# Altium schematic symbol library Oscillators.SchLib: 5 symbols
Pins are listed as number, name and electrical type; pins without a type are passive.

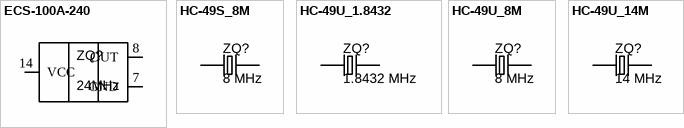
[diagram p0: symbols ECS-100A-240 to HC-49U_14M]

## ECS-100A-240
designator ZQ?, comment 24MHz
Oscillator  14-DIP, 4 Leads (Full Size, Metal Can); MP: ECS-100A-240; Package: None; Price: None; Value: *; Availability: Unavailable
footprint OSC_ECS-100A-240
pins: 7 GND, 8 OUT, 14 VCC

## HC-49S_8M
designator ZQ?, comment 8 MHz
footprint XTAL_ECS-80-S-4
pins: 1, 2

## HC-49U_1.8432
designator ZQ?, comment 1.8432 MHz
footprint XTAL_HC-49U
pins: 1, 2

## HC-49U_8M
designator ZQ?, comment 8 MHz
footprint XTAL_HC-49U
pins: 1, 2

## HC-49U_14M
designator ZQ?, comment 14 MHz
footprint XTAL_HC-49U
pins: 1, 2